# EAGLE library part K40-X (library laztech_parts)
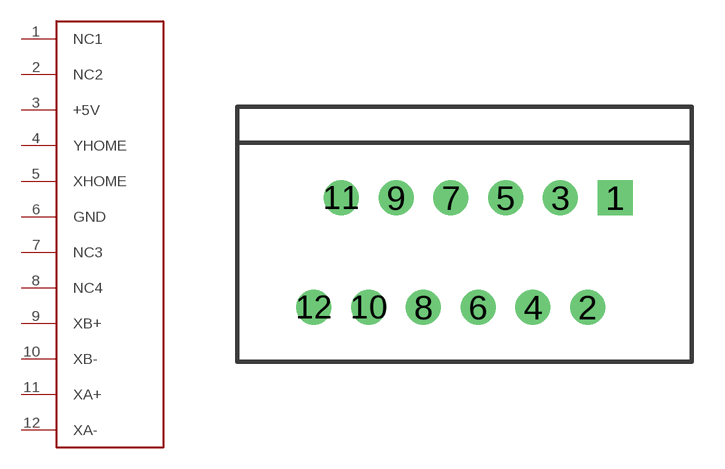
[diagram p2: symbol with the pads of MOLEX-FFC-12-RA; footprint MOLEX-FFC-12-RA]

Designator prefix -

## K40-X  [MOLEX-FFC-12-RA]
1  NC1  nc
2  NC2  nc
3  +5V  pwr
4  YHOME  out
5  XHOME  out
6  GND  sup
7  NC3  nc
8  NC4  nc
9  XB+  pas
10  XB-  pas
11  XA+  pas
12  XA-  pas

## Footprint MOLEX-FFC-12-RA (pad centres in mm)
drill 0.8 pad 1.6 square: 1 6.875,2.5
drill 0.8 pad 1.6: 2 5.625,-2.5; 3 4.375,2.5; 4 3.125,-2.5; 5 1.875,2.5; 6 0.625,-2.5; 7 -0.625,2.5; 8 -1.875,-2.5; 9 -3.125,2.5; 10 -4.375,-2.5; 11 -5.625,2.5; 12 -6.875,-2.5